# Altium footprint library TIDA-010086.PcbLib: 24 footprints (part 1 of 2)
Each footprint in its own frame and in the unit in brackets; x right, y up, seen from the top. Pads: shape width x height; smd on the part's side, far side on the other; paste and mask are expansions set on the pad; w line width, h text height; cw(c..) or ccw(c..) is an arc to the next point about the centre after c.
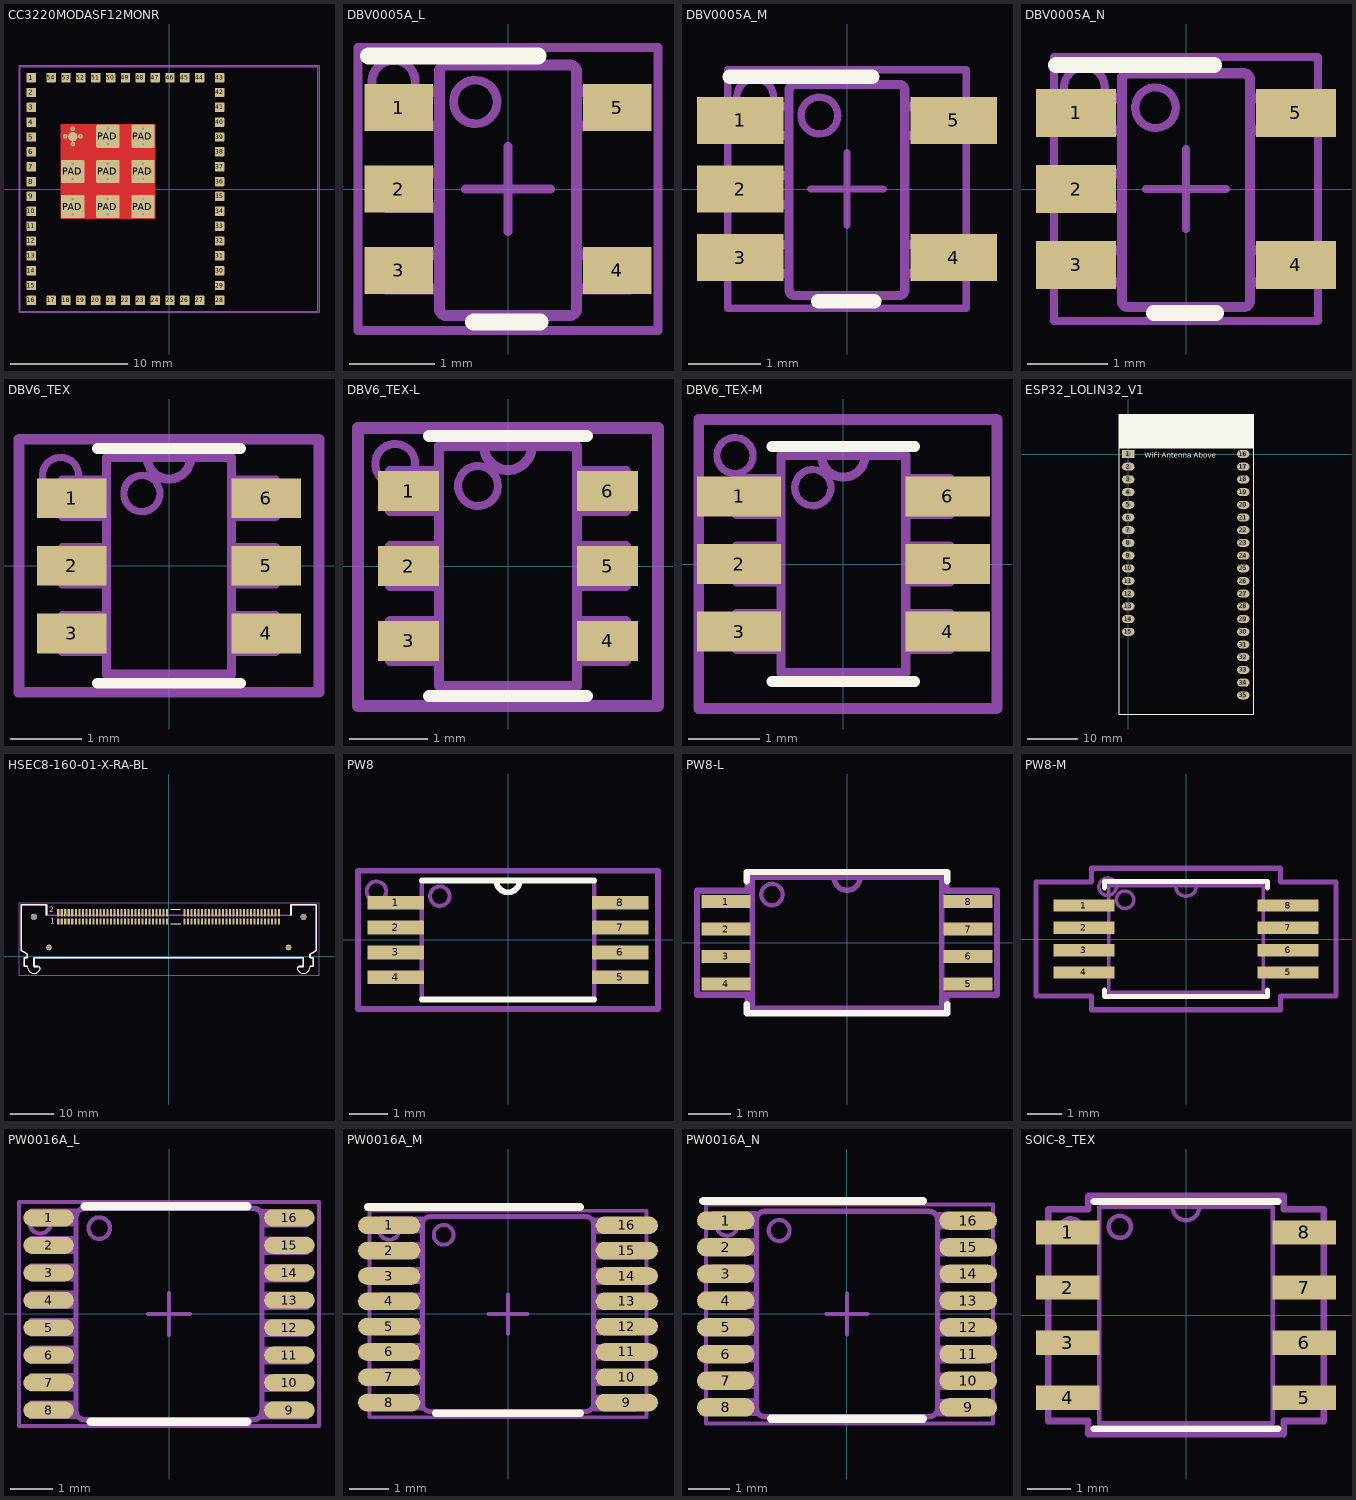
[diagram p0: the footprints below, top view; thin cyan lines are the x and y axes]

## CC3220MODASF12MONR [mm]
pads (99):
  rrect12% 0.8x0.8 smd paste-0.03: 1(-11.774,9.525) 2(-11.774,8.255) 3(-11.774,6.985) 4(-11.774,5.715) 5(-11.774,4.445) 6(-11.774,3.175) 7(-11.774,1.905) 8(-11.774,0.635) 9(-11.774,-0.635) 10(-11.774,-1.905) 11(-11.774,-3.175) 12(-11.774,-4.445) 13(-11.774,-5.715) 14(-11.774,-6.985) 15(-11.774,-8.255) 16(-11.774,-9.525) 17(-10.074,-9.524) 18(-8.804,-9.524) 19(-7.534,-9.524) 20(-6.264,-9.524) 21(-4.994,-9.524) 22(-3.724,-9.524) 23(-2.454,-9.524) 24(-1.184,-9.524) 25(0.086,-9.524) 26(1.356,-9.524) 27(2.626,-9.524) 28(4.326,-9.525) 29(4.326,-8.255) 30(4.326,-6.985) 31(4.326,-5.715) 32(4.326,-4.445) 33(4.326,-3.175) 34(4.326,-1.905) 35(4.326,-0.635) 36(4.326,0.635) 37(4.326,1.905) 38(4.326,3.175) 39(4.326,4.445) 40(4.326,5.715) 41(4.326,6.985) 42(4.326,8.255) 43(4.326,9.525) 44(2.626,9.524) 45(1.356,9.524) 46(0.086,9.524) 47(-1.184,9.524) 48(-2.454,9.524) 49(-3.724,9.524) 50(-4.994,9.524) 51(-6.264,9.524) 52(-7.534,9.524) 53(-8.804,9.524) 54(-10.074,9.524)
  round 0.4 hole 0.2 mask+0.102: PAD(-8.874,-1.5) PAD(-8.874,1.5) PAD(-8.874,4.5) PAD(-8.224,-2.15) PAD(-8.224,-0.85) PAD(-8.224,0.85) PAD(-8.224,2.15) PAD(-8.224,3.85) PAD(-8.224,5.15) PAD(-7.574,-1.5) PAD(-7.574,1.5) PAD(-7.574,4.5) PAD(-5.874,-1.5) PAD(-5.874,1.5) PAD(-5.874,4.5) PAD(-5.224,-2.15) PAD(-5.224,-0.85) PAD(-5.224,0.85) PAD(-5.224,2.15) PAD(-5.224,3.85) PAD(-5.224,5.15) PAD(-4.574,-1.5) PAD(-4.574,1.5) PAD(-4.574,4.5) PAD(-2.874,-1.5) PAD(-2.874,1.5) PAD(-2.874,4.5) PAD(-2.224,-2.15) PAD(-2.224,-0.85) PAD(-2.224,0.85) PAD(-2.224,2.15) PAD(-2.224,3.85) PAD(-2.224,5.15) PAD(-1.574,-1.5) PAD(-1.574,1.5) PAD(-1.574,4.5)
  round 0.8 smd: PAD(-8.225,4.475)
  rrect12% 2x2 smd paste-0.1 mask+0: PAD(-8.224,-1.5) PAD(-8.224,1.5) PAD(-5.224,-1.5) PAD(-5.224,1.5) PAD(-5.224,4.5) PAD(-2.224,-1.5) PAD(-2.224,1.5) PAD(-2.224,4.5)
Top Layer:
  rectangle: -9.274,-2.55 -1.174,5.55
  region: -9.2,3.526 -9.15,3.5 -9.125,3.5 -9.075,3.5 -7.35,3.5 -7.3,3.5 -7.249,3.526 -7.225,3.575 -7.225,3.625 -7.225,5.425 -7.249,5.474 -7.3,5.5 -7.35,5.5 -8.524,5.5 -9.225,4.798 -9.225,3.65 -9.225,3.6 -9.225,3.575
Top Courtyard:
  lines w0.1: -12.7,-10.45 12.7,-10.45 12.7,10.45 -12.7,10.45 -12.7,-10.45
Mechanical 5:
  lines w0.127: -12.827,-10.541 12.827,-10.541 12.827,10.541 -12.827,10.541 -12.827,-10.541
  text ".Designator" at -4.998,-0.333 h1
3D body: height 2.4, standoff 0.88, extent -12.062,-9.8 4.614,9.8
3D body: height 0.88, standoff 0, extent -12.65,-10.4 12.65,10.4

## DBV0005A_L [mm]
pads (5):
  rect 0.8x0.55 smd paste+0 mask+0: 1(-1.275,0.95) 2(-1.275,0) 3(-1.275,-0.95) 4(1.275,-0.95) 5(1.275,0.95)
Top Overlay:
  lines w0.2: -1.625,1.55 0.35,1.55 ; -0.4,-1.55 0.375,-1.55
Mechanical 5:
  circle w0.102: c-1.335,1.247 r0.254
  lines w0.102: -1.75,-1.65 1.75,-1.65 1.75,1.65 -1.75,1.65 -1.75,-1.65
  text ".Designator" at -0.15,2.249 h0.45
Mechanical 13:
  circle w0.102: c-0.381,1.016 r0.254
  lines w0.127: -0.801,1.371 cw(c-0.725,1.37) -0.725,1.446 ; -0.801,1.37 -0.801,-1.399 -0.801,-1.4 ccw(c-0.725,-1.399) -0.725,-1.475 ; -0.801,1.37 -0.801,1.371 ; -0.725,-1.475 -0.725,-1.475 ; -0.725,-1.475 0.723,-1.475 0.724,-1.475 ccw(c0.723,-1.399) 0.799,-1.4 0.799,-1.399 0.799,1.37 ; -0.725,1.446 -0.725,1.446 ; -0.725,1.446 0.723,1.446 0.724,1.446 cw(c0.723,1.37) 0.799,1.371 ; 0.799,1.37 0.799,1.371 ; -1.423,-1.167 -1.199,-1.167 -1.105,-1.167 -1.088,-1.167 -0.835,-1.167 -0.801,-1.167 -0.801,-0.767 -0.835,-0.767 -1.088,-0.767 -1.105,-0.767 -1.199,-0.767 -1.423,-0.767 -1.423,-1.167 ; -1.423,-0.215 -1.199,-0.215 -1.105,-0.215 -1.088,-0.215 -0.835,-0.215 -0.801,-0.215 -0.801,0.186 -0.835,0.186 -1.088,0.186 -1.105,0.186 -1.199,0.186 -1.423,0.186 -1.423,-0.215 ; -1.423,0.738 -1.199,0.738 -1.105,0.738 -1.088,0.738 -0.835,0.738 -0.801,0.738 -0.801,1.138 -0.835,1.138 -1.088,1.138 -1.105,1.138 -1.199,1.138 -1.423,1.138 -1.423,0.738 ; 0.799,-1.167 0.799,-0.767 0.834,-0.767 1.087,-0.767 1.103,-0.767 1.198,-0.767 1.422,-0.767 1.422,-1.167 1.198,-1.167 1.103,-1.167 1.087,-1.167 0.834,-1.167 0.799,-1.167 ; 0.799,0.738 0.799,1.138 0.834,1.138 1.087,1.138 1.103,1.138 1.198,1.138 1.422,1.138 1.422,0.738 1.198,0.738 1.103,0.738 1.087,0.738 0.834,0.738 0.799,0.738
Mechanical 15:
  lines w0.1: -0.5,0 0.5,0 ; 0,-0.5 0,0.5
3D body "DBV0005A.stp": height 1.2, standoff 0, extent -1.4,-1.45 1.4,1.45

## DBV0005A_M [mm]
pads (5):
  rect 1.2x0.65 smd paste+0 mask+0: 1(-1.475,0.95) 2(-1.475,0) 3(-1.475,-0.95) 4(1.475,-0.95) 5(1.475,0.95)
Top Overlay:
  lines w0.2: -1.625,1.55 0.35,1.55 ; -0.4,-1.55 0.375,-1.55
Mechanical 5:
  circle w0.102: c-1.27,1.27 r0.254
  lines w0.102: -1.651,-1.651 1.651,-1.651 1.651,1.651 -1.651,1.651 -1.651,-1.651
  text ".Designator" at -0.15,2.249 h0.45
Mechanical 13:
  circle w0.102: c-0.381,1.016 r0.254
  lines w0.127: -0.801,1.371 cw(c-0.725,1.37) -0.725,1.446 ; -0.801,1.37 -0.801,-1.399 -0.801,-1.4 ccw(c-0.725,-1.399) -0.725,-1.475 ; -0.801,1.37 -0.801,1.371 ; -0.725,-1.475 -0.725,-1.475 ; -0.725,-1.475 0.723,-1.475 0.724,-1.475 ccw(c0.723,-1.399) 0.799,-1.4 0.799,-1.399 0.799,1.37 ; -0.725,1.446 0.723,1.446 0.724,1.446 cw(c0.723,1.37) 0.799,1.371 ; -0.725,1.446 -0.725,1.446 ; 0.799,1.37 0.799,1.371 ; -1.423,-1.167 -1.423,-0.767 -1.199,-0.767 -1.105,-0.767 -1.088,-0.767 -0.835,-0.767 -0.801,-0.767 -0.801,-1.167 -0.835,-1.167 -1.088,-1.167 -1.105,-1.167 -1.199,-1.167 -1.423,-1.167 ; -1.423,-0.215 -1.199,-0.215 -1.105,-0.215 -1.088,-0.215 -0.835,-0.215 -0.801,-0.215 -0.801,0.186 -0.835,0.186 -1.088,0.186 -1.105,0.186 -1.199,0.186 -1.423,0.186 -1.423,-0.215 ; -1.423,0.738 -1.199,0.738 -1.105,0.738 -1.088,0.738 -0.835,0.738 -0.801,0.738 -0.801,1.138 -0.835,1.138 -1.088,1.138 -1.105,1.138 -1.199,1.138 -1.423,1.138 -1.423,0.738 ; 0.799,-1.167 0.799,-0.767 0.834,-0.767 1.087,-0.767 1.103,-0.767 1.198,-0.767 1.422,-0.767 1.422,-1.167 1.198,-1.167 1.103,-1.167 1.087,-1.167 0.834,-1.167 0.799,-1.167 ; 0.799,0.738 0.799,1.138 0.834,1.138 1.087,1.138 1.103,1.138 1.198,1.138 1.422,1.138 1.422,0.738 1.198,0.738 1.103,0.738 1.087,0.738 0.834,0.738 0.799,0.738
Mechanical 15:
  lines w0.1: -0.5,0 0.5,0 ; 0,-0.5 0,0.5
3D body "DBV0005A.stp": height 1.2, standoff 0, extent -1.4,-1.45 1.4,1.45

## DBV0005A_N [mm]
pads (5):
  rect 1x0.6 smd paste+0 mask+0: 1(-1.375,0.95) 2(-1.375,0) 3(-1.375,-0.95) 4(1.375,-0.95) 5(1.375,0.95)
Top Overlay:
  lines w0.2: -1.625,1.55 0.35,1.55 ; -0.4,-1.55 0.375,-1.55
Mechanical 5:
  circle w0.102: c-1.27,1.27 r0.254
  lines w0.102: -1.651,-1.651 1.651,-1.651 1.651,1.651 -1.651,1.651 -1.651,-1.651
  text ".Designator" at -0.15,2.249 h0.45
Mechanical 13:
  circle w0.102: c-0.381,1.016 r0.254
  lines w0.127: -0.801,1.371 cw(c-0.725,1.37) -0.725,1.446 ; -0.801,1.37 -0.801,-1.399 -0.801,-1.4 ccw(c-0.725,-1.399) -0.725,-1.475 ; -0.801,1.37 -0.801,1.371 ; -0.725,-1.475 0.723,-1.475 0.724,-1.475 ccw(c0.723,-1.399) 0.799,-1.4 0.799,-1.399 0.799,1.37 ; -0.725,-1.475 -0.725,-1.475 ; -0.725,1.446 0.723,1.446 0.724,1.446 cw(c0.723,1.37) 0.799,1.371 ; -0.725,1.446 -0.725,1.446 ; 0.799,1.37 0.799,1.371 ; -1.423,-1.167 -1.423,-0.767 -1.199,-0.767 -1.105,-0.767 -1.088,-0.767 -0.835,-0.767 -0.801,-0.767 -0.801,-1.167 -0.835,-1.167 -1.088,-1.167 -1.105,-1.167 -1.199,-1.167 -1.423,-1.167 ; -1.423,-0.215 -1.423,0.186 -1.199,0.186 -1.105,0.186 -1.088,0.186 -0.835,0.186 -0.801,0.186 -0.801,-0.215 -0.835,-0.215 -1.088,-0.215 -1.105,-0.215 -1.199,-0.215 -1.423,-0.215 ; -1.423,0.738 -1.423,1.138 -1.199,1.138 -1.105,1.138 -1.088,1.138 -0.835,1.138 -0.801,1.138 -0.801,0.738 -0.835,0.738 -1.088,0.738 -1.105,0.738 -1.199,0.738 -1.423,0.738 ; 0.799,-1.167 0.834,-1.167 1.087,-1.167 1.103,-1.167 1.198,-1.167 1.422,-1.167 1.422,-0.767 1.198,-0.767 1.103,-0.767 1.087,-0.767 0.834,-0.767 0.799,-0.767 0.799,-1.167 ; 0.799,0.738 0.799,1.138 0.834,1.138 1.087,1.138 1.103,1.138 1.198,1.138 1.422,1.138 1.422,0.738 1.198,0.738 1.103,0.738 1.087,0.738 0.834,0.738 0.799,0.738
Mechanical 15:
  lines w0.1: -0.5,0 0.5,0 ; 0,-0.5 0,0.5
3D body "DBV0005A.stp": height 1.2, standoff 0, extent -1.4,-1.45 1.4,1.45

## DBV6_TEX [mil]
pads (6):
  rect 38.5x22 smd paste+0 mask+0: 1(-53.75,37.4) 2(-53.75,0) 3(-53.75,-37.4) 4(53.75,-37.4) 5(53.75,0) 6(53.75,37.4)
Top Overlay:
  lines w6: -39.5,-65 39.5,-65 ; -39.5,65 39.5,65
  text "." at -75,75 h50
Mechanical 5:
  circle w4: c-60,50 r10
  lines w6: -83,-70 -44.5,-70 44.5,-70 83,-70 83,70 44.5,70 -44.5,70 -83,70 -83,-70
  text ".Designator" at -5.9,88.55 h17.72
Mechanical 13:
  circle w4: c-15,40 r10
  lines w5: -12,60 ccw(c0,60) 12,60 ; -59,-47.4 -59,-27.4 -34.5,-27.4 -34.5,-47.4 -59,-47.4 ; -59,-10 -59,10 -34.5,10 -34.5,-10 -59,-10 ; -59,27.4 -59,47.4 -34.5,47.4 -34.5,27.4 -59,27.4 ; -34.5,-60 34.5,-60 34.5,60 -34.5,60 -34.5,-60 ; 34.5,-47.4 34.5,-27.4 59,-27.4 59,-47.4 34.5,-47.4 ; 34.5,-10 34.5,10 59,10 59,-10 34.5,-10 ; 34.5,27.4 34.5,47.4 59,47.4 59,27.4 34.5,27.4
3D body "DBV0006A.stp": height 47.24, standoff 0, extent -55.11,-57.08 55.12,57.09

## DBV6_TEX-L [mil]
pads (6):
  rect 30.5x20 smd paste+0 mask+0: 1(-49.75,37.4) 2(-49.75,0) 3(-49.75,-37.4) 4(49.75,-37.4) 5(49.75,0) 6(49.75,37.4)
Top Overlay:
  lines w6: -39.5,-65 39.5,-65 ; -39.5,65 39.5,65
  text "." at -75,75 h50
Mechanical 5:
  circle w4: c-56.4,51.06 r10
  lines w6: -75,-70 -32.5,-70 44.5,-70 75,-70 75,69 -75,69 -75,-70
  text ".Designator" at -5.9,88.55 h17.72
Mechanical 13:
  circle w4: c-15,40 r10
  lines w5: -12,60 ccw(c0,60) 12,60 ; -59,-47.4 -34.5,-47.4 -34.5,-27.4 -59,-27.4 -59,-47.4 ; -59,-10 -34.5,-10 -34.5,10 -59,10 -59,-10 ; -59,27.4 -34.5,27.4 -34.5,47.4 -59,47.4 -59,27.4 ; -34.5,-60 -34.5,60 34.5,60 34.5,-60 -34.5,-60 ; 34.5,-47.4 59,-47.4 59,-27.4 34.5,-27.4 34.5,-47.4 ; 34.5,-10 59,-10 59,10 34.5,10 34.5,-10 ; 34.5,27.4 59,27.4 59,47.4 34.5,47.4 34.5,27.4
3D body "DBV0006A.stp": height 47.24, standoff 0, extent -55.11,-57.08 55.12,57.09

## DBV6_TEX-M [mil]
pads (6):
  rect 46.5x22 smd paste+0 mask+0: 1(-57.75,37.4) 2(-57.75,0) 3(-57.75,-37.4) 4(57.75,-37.4) 5(57.75,0) 6(57.75,37.4)
Top Overlay:
  lines w6: -39.5,-65 39.5,-65 ; -39.5,65 39.5,65
  text "." at -75,75 h50
Mechanical 5:
  circle w4: c-60,60 r10
  lines w6: -80,-80 -80,80 -54.5,80 54.5,80 85,80 85,-80 54.5,-80 -54.5,-80 -80,-80
  text ".Designator" at -5.9,88.55 h17.72
Mechanical 13:
  circle w4: c-16.9,42.28 r10
  lines w5: -12,60 ccw(c0,60) 12,60 ; -59,-47.4 -59,-27.4 -34.5,-27.4 -34.5,-47.4 -59,-47.4 ; -59,-10 -59,10 -34.5,10 -34.5,-10 -59,-10 ; -59,27.4 -59,47.4 -34.5,47.4 -34.5,27.4 -59,27.4 ; -34.5,-60 34.5,-60 34.5,60 -34.5,60 -34.5,-60 ; 34.5,-47.4 34.5,-27.4 59,-27.4 59,-47.4 34.5,-47.4 ; 34.5,-10 34.5,10 59,10 59,-10 34.5,-10 ; 34.5,27.4 34.5,47.4 59,47.4 59,27.4 34.5,27.4
3D body "DBV0006A.stp": height 47.24, standoff 0, extent -55.11,-57.08 55.12,57.09
3D body "DBV0006A.stp": height 47.24, standoff 0, extent -55.11,-57.08 55.12,57.09

## ESP32_LOLIN32_V1 [mm] "WeMos LOLIN32 ESP32 Module"
pads (36):
  rect 2.5x1.6 / inner rect 2x1.2 / far side rect 2x1 hole 1.1: 1(0,0)
  oval 2.5x1.6 / inner oval 2x1.2 / far side oval 2x1 hole 1.1: 2(0,-2.54) 3(0,-5.08) 4(0,-7.62) 5(0,-10.16) 6(0,-12.7) 7(0,-15.24) 8(0,-17.78) 9(0,-20.32) 10(0,-22.86) 11(0,-25.4) 12(0,-27.94) 13(0,-30.48) 14(0,-33.02) 15(0,-35.56) 16(23,0) 17(23,-2.54) 17(23,-2.54) 18(23,-5.08) 19(23,-7.62) 20(23,-10.16) 21(23,-12.7) 22(23,-15.24) 23(23,-17.78) 24(23,-20.32) 25(23,-22.86) 26(23,-25.4) 27(23,-27.94) 28(23,-30.48) 29(23,-33.02) 30(23,-35.56) 31(23,-38.1) 32(23,-40.64) 33(23,-43.18) 34(23,-45.72) 35(23,-48.26)
Top Overlay:
  rectangle: -1.9,1.1 25,8
  lines w0.2: -1.9,-52 -1.9,8 25,8 25,-52 -1.9,-52
  text "WiFi Antenna Above" at 3.3,-0.7 h1
Mechanical 5:
  text ".Designator" at 11.397,-18.096 h1.27
3D body "Lolin32 V1.0.0.step": height 8.35, standoff -7.64, extent -1.34,-51.186 24.2,7.586

## HSEC8-160-01-X-RA-BL [mm]
pads (124):
  rect 0.5x1.35 smd: 1(-25.2,7.925) 3(-24.4,7.925) 5(-23.6,7.925) 7(-22.8,7.925) 9(-22,7.925) 11(-21.2,7.925) 13(-20.4,7.925) 15(-19.6,7.925) 17(-18.8,7.925) 19(-18,7.925) 21(-17.2,7.925) 23(-16.4,7.925) 25(-15.6,7.925) 27(-14.8,7.925) 29(-14,7.925) 31(-13.2,7.925) 33(-12.4,7.925) 35(-11.6,7.925) 37(-10.8,7.925) 39(-10,7.925) 41(-9.2,7.925) 43(-8.4,7.925) 45(-7.6,7.925) 47(-6.8,7.925) 49(-6,7.925) 51(-5.2,7.925) 53(-4.4,7.925) 55(-3.6,7.925) 57(-2.8,7.925) 59(-2,7.925) 61(-1.2,7.925) 63(-0.4,7.925) 65(3.6,7.925) 67(4.4,7.925) 69(5.2,7.925) 71(6,7.925) 73(6.8,7.925) 75(7.6,7.925) 77(8.4,7.925) 79(9.2,7.925) 81(10,7.925) 83(10.8,7.925) 85(11.6,7.925) 87(12.4,7.925) 89(13.2,7.925) 91(14,7.925) 93(14.8,7.925) 95(15.6,7.925) 97(16.4,7.925) 99(17.2,7.925) 101(18,7.925) 103(18.8,7.925) 105(19.6,7.925) 107(20.4,7.925) 109(21.2,7.925) 111(22,7.925) 113(22.8,7.925) 115(23.6,7.925) 117(24.4,7.925) 119(25.2,7.925)
  rect 0.5x1.65 smd: 2(-25.2,9.925) 4(-24.4,9.925) 6(-23.6,9.925) 8(-22.8,9.925) 10(-22,9.925) 12(-21.2,9.925) 14(-20.4,9.925) 16(-19.6,9.925) 18(-18.8,9.925) 20(-18,9.925) 22(-17.2,9.925) 24(-16.4,9.925) 26(-15.6,9.925) 28(-14.8,9.925) 30(-14,9.925) 32(-13.2,9.925) 34(-12.4,9.925) 36(-11.6,9.925) 38(-10.8,9.925) 40(-10,9.925) 42(-9.2,9.925) 44(-8.4,9.925) 46(-7.6,9.925) 48(-6.8,9.925) 50(-6,9.925) 52(-5.2,9.925) 54(-4.4,9.925) 56(-3.6,9.925) 58(-2.8,9.925) 60(-2,9.925) 62(-1.2,9.925) 64(-0.4,9.925) 66(3.6,9.925) 68(4.4,9.925) 70(5.2,9.925) 72(6,9.925) 74(6.8,9.925) 76(7.6,9.925) 78(8.4,9.925) 80(9.2,9.925) 82(10,9.925) 84(10.8,9.925) 86(11.6,9.925) 88(12.4,9.925) 90(13.2,9.925) 92(14,9.925) 94(14.8,9.925) 96(15.6,9.925) 98(16.4,9.925) 100(17.2,9.925) 102(18,9.925) 104(18.8,9.925) 106(19.6,9.925) 108(20.4,9.925) 110(21.2,9.925) 112(22,9.925) 114(22.8,9.925) 116(23.6,9.925) 118(24.4,9.925) 120(25.2,9.925)
  round 1.3 hole 0.81: G1(-27.35,2) G2(27.35,2)
  round 1.4 hole 1.4 unplated: ""(-30.775,9) ""(30.775,9)
Top Overlay:
  drawing of 51 lines, arcs and shapes, not listed
  text "1" at -27.051,7.366 h1.27
  text "2" at -27.305,10.033 h1.27
Top Paste:
  drawing of 2 lines, arcs and shapes, not listed
Mechanical 5:
  lines w0.102: -34.176,-4.331 34.303,-4.331 34.303,12.205 -34.176,12.205 -34.176,-4.331
  text ".Designator" at -3.749,4.068 h0.75
Mechanical 13:
  drawing of 50 lines, arcs and shapes, not listed
3D body "strip_hsec8-160-01-l-ra-bl.stp": height 6.16, standoff -1.54, extent -33.645,-3.888 33.655,11.762

## PW8 [mil]
pads (8):
  rect 58x14 smd: 1(-115,38.39) 2(-115,12.8) 3(-115,-12.8) 4(-115,-38.39) 5(115,-38.39) 6(115,-12.8) 7(115,12.8) 8(115,38.39)
Top Overlay:
  lines w6: -88.5,-61 88.5,-61 ; -88.5,61 88.5,61 ; -12,61 ccw(c0,61) 12,61
  text "." at -120,75 h50
Mechanical 5:
  circle w4: c-135,50 r10
  lines w6: -154,-71 154,-71 154,71 -154,71 -154,-71
  text ".Designator" at -147.59,-9.84 h29.53
Mechanical 13:
  circle w4: c-70,45 r10
  lines w5: -12,61 ccw(c0,61) 12,61 ; -88.5,-61 88.5,-61 88.5,61 -88.5,61 -88.5,-61
3D body "PW0008A.stp": height 42.32, standoff -0.98, extent -126.4,-59.05 126.4,59.06

## PW8-L [mil]
pads (8):
  rect 46x12 smd paste+0 mask+0: 1(-113,38.39) 2(-113,12.8) 3(-113,-12.8) 4(-113,-38.39) 5(113,-38.39) 6(113,-12.8) 7(113,12.8) 8(113,38.39)
Top Overlay:
  lines w6: -93.5,-57.49 -93.5,-66 93.5,-66 93.5,-57.49 ; -93.5,57.49 -93.5,66 93.5,66 93.5,57.49
  text "." at -120,75 h50
Mechanical 5:
  circle w4: c-70,45 r10
  lines w6: -140,-48.39 -92.5,-48.39 -92.5,-65 92.5,-65 92.5,-48.39 140,-48.39 140,48.39 92.5,48.39 92.5,65 -92.5,65 -92.5,48.39 -140,48.39 -140,-48.39
  text ".Designator" at -147.59,-9.84 h29.53
Mechanical 13:
  circle w4: c-70,45 r10
  lines w5: -12,61 ccw(c0,61) 12,61 ; -88.5,-61 -88.5,61 88.5,61 88.5,-61 -88.5,-61
3D body "PW0008A.stp": height 42.32, standoff -0.98, extent -126.4,-59.05 126.4,59.06

## PW8-M [mil]
pads (8):
  rect 70x14 smd paste+0 mask+0: 1(-117,38.39) 2(-117,12.8) 3(-117,-12.8) 4(-117,-38.39) 5(117,-38.39) 6(117,-12.8) 7(117,12.8) 8(117,38.39)
Top Overlay:
  lines w6: -93.5,-58.49 -93.5,-66 93.5,-66 93.5,-58.49 ; -93.5,58.49 -93.5,66 93.5,66 93.5,58.49
  text "." at -120,75 h50
Mechanical 5:
  circle w4: c-90,60 r10
  lines w6: -172,-65.39 -108.5,-65.39 -108.5,-81 108.5,-81 108.5,-65.39 172,-65.39 172,65.39 108.5,65.39 108.5,81 -108.5,81 -108.5,65.39 -172,65.39 -172,-65.39
  text ".Designator" at -147.59,-9.84 h29.53
Mechanical 13:
  circle w4: c-70,45 r10
  lines w4: -12,61 ccw(c0,61) 12,61 ; -88.5,-61 -88.5,61 88.5,61 88.5,-61 -88.5,-61
3D body "PW0008A.stp": height 42.32, standoff -0.98, extent -126.4,-59.05 126.4,59.06

## PW0016A_L [mm]
pads (16):
  oval 1.2x0.4 smd paste+0 mask+0.051: 1(-2.85,2.275) 2(-2.85,1.625) 3(-2.85,0.975) 4(-2.85,0.325) 5(-2.85,-0.325) 6(-2.85,-0.975) 7(-2.85,-1.625) 8(-2.85,-2.275) 9(2.85,-2.275) 10(2.85,-1.625) 11(2.85,-0.975) 12(2.85,-0.325) 13(2.85,0.325) 14(2.85,0.975) 15(2.85,1.625) 16(2.85,2.275)
Top Overlay:
  lines w0.2: -2,2.55 1.85,2.55 ; -1.85,-2.55 1.85,-2.55
  text "." at -2.921,3.048 h0.64
Mechanical 5:
  circle w0.102: c-3.048,2.159 r0.254
  lines w0.102: -3.55,-2.65 -3.55,2.65 3.55,2.65 3.55,-2.65 -3.55,-2.65
  text ".Designator" at -3.749,-0.25 h0.75
Mechanical 13:
  circle w0.102: c-1.651,2.032 r0.254
  lines w0.127: -2.204,-2.418 -3.259,-2.418 -3.259,-2.113 -2.204,-2.113 ; -2.204,-1.768 -3.259,-1.768 -3.259,-1.463 -2.204,-1.463 ; -2.204,-1.118 -3.259,-1.118 -3.259,-0.813 -2.204,-0.813 ; -2.204,-0.468 -3.259,-0.468 -3.259,-0.163 -2.204,-0.163 ; -2.204,0.182 -3.259,0.182 -3.259,0.487 -2.204,0.487 ; -2.204,0.832 -3.259,0.832 -3.259,1.137 -2.204,1.137 ; -2.204,1.482 -3.259,1.482 -3.259,1.787 -2.204,1.787 ; -2.204,2.132 -3.259,2.132 -3.259,2.437 -2.204,2.437 ; -2.2,-2.398 -2.2,-2.152 ; -2.2,-1.748 -2.2,-1.503 ; -2.2,-1.098 -2.2,-0.852 ; -2.2,-0.447 -2.2,-0.203 ; -2.2,0.202 -2.2,0.448 ; -2.2,0.853 -2.2,1.097 ; -2.2,1.502 -2.2,1.747 ; -2.2,2.152 -2.2,2.397 ; 2.2,-2.398 2.2,-2.152 ; 2.2,-1.748 2.2,-1.503 ; 2.2,-1.098 2.2,-0.852 ; 2.2,-0.447 2.2,-0.203 ; 2.2,0.202 2.2,0.448 ; 2.2,0.853 2.2,1.097 ; 2.2,1.502 2.2,1.747 ; 2.2,2.153 2.2,2.397 ; 2.212,-2.436 3.266,-2.436 3.266,-2.132 2.212,-2.132 ; 2.212,-1.786 3.266,-1.786 3.266,-1.482 2.212,-1.482 ; 2.212,-1.136 3.266,-1.136 3.266,-0.832 2.212,-0.832 ; 2.212,-0.486 3.266,-0.486 3.266,-0.182 2.212,-0.182 ; 2.212,0.164 3.266,0.164 3.266,0.468 2.212,0.468 ; 2.212,0.814 3.266,0.814 3.266,1.118 2.212,1.118 ; 2.212,1.464 3.266,1.464 3.266,1.768 2.212,1.768 ; 2.212,2.114 3.266,2.114 3.266,2.418 2.212,2.418 ; -2.2,-2.3 ccw(c-2,-2.3) -2,-2.5 2,-2.5 ccw(c2,-2.3) 2.2,-2.3 2.2,2.3 ccw(c2,2.3) 2,2.5 -2,2.5 ccw(c-2,2.3) -2.2,2.3 -2.2,-2.3
Mechanical 15:
  lines w0.1: -0.5,0 0.5,0 ; 0,-0.5 0,0.5
3D body "PW0016A.stp": height 1.13, standoff 0, extent -3.2,-2.5 3.2,2.5

## PW0016A_M [mm]
pads (16):
  oval 1.6x0.45 smd paste+0 mask+0.051: 1(-3.05,2.275) 2(-3.05,1.625) 3(-3.05,0.975) 4(-3.05,0.325) 5(-3.05,-0.325) 6(-3.05,-0.975) 7(-3.05,-1.625) 8(-3.05,-2.275) 9(3.05,-2.275) 10(3.05,-1.625) 11(3.05,-0.975) 12(3.05,-0.325) 13(3.05,0.325) 14(3.05,0.975) 15(3.05,1.625) 16(3.05,2.275)
Top Overlay:
  lines w0.2: -3.6,2.75 1.85,2.75 ; -1.85,-2.55 1.85,-2.55
Mechanical 5:
  circle w0.102: c-3.048,2.159 r0.254
  lines w0.102: -3.55,-2.65 3.55,-2.65 3.55,2.65 -3.55,2.65 -3.55,-2.65
  text ".Designator" at -3.749,-0.25 h0.75
Mechanical 13:
  circle w0.102: c-1.651,2.032 r0.254
  lines w0.127: -2.204,-2.418 -3.259,-2.418 -3.259,-2.113 -2.204,-2.113 ; -2.204,-1.768 -3.259,-1.768 -3.259,-1.463 -2.204,-1.463 ; -2.204,-1.118 -3.259,-1.118 -3.259,-0.813 -2.204,-0.813 ; -2.204,-0.468 -3.259,-0.468 -3.259,-0.163 -2.204,-0.163 ; -2.204,0.182 -3.259,0.182 -3.259,0.487 -2.204,0.487 ; -2.204,0.832 -3.259,0.832 -3.259,1.137 -2.204,1.137 ; -2.204,1.482 -3.259,1.482 -3.259,1.787 -2.204,1.787 ; -2.204,2.132 -3.259,2.132 -3.259,2.437 -2.204,2.437 ; -2.2,-2.398 -2.2,-2.152 ; -2.2,-1.748 -2.2,-1.503 ; -2.2,-1.098 -2.2,-0.852 ; -2.2,-0.447 -2.2,-0.203 ; -2.2,0.202 -2.2,0.448 ; -2.2,0.853 -2.2,1.097 ; -2.2,1.502 -2.2,1.747 ; -2.2,2.152 -2.2,2.397 ; 2.2,-2.398 2.2,-2.152 ; 2.2,-1.748 2.2,-1.503 ; 2.2,-1.098 2.2,-0.852 ; 2.2,-0.447 2.2,-0.203 ; 2.2,0.202 2.2,0.448 ; 2.2,0.853 2.2,1.097 ; 2.2,1.502 2.2,1.747 ; 2.2,2.153 2.2,2.397 ; 2.212,-2.436 3.266,-2.436 3.266,-2.132 2.212,-2.132 ; 2.212,-1.786 3.266,-1.786 3.266,-1.482 2.212,-1.482 ; 2.212,-1.136 3.266,-1.136 3.266,-0.832 2.212,-0.832 ; 2.212,-0.486 3.266,-0.486 3.266,-0.182 2.212,-0.182 ; 2.212,0.164 3.266,0.164 3.266,0.468 2.212,0.468 ; 2.212,0.814 3.266,0.814 3.266,1.118 2.212,1.118 ; 2.212,1.464 3.266,1.464 3.266,1.768 2.212,1.768 ; 2.212,2.114 3.266,2.114 3.266,2.418 2.212,2.418 ; -2.2,-2.3 ccw(c-2,-2.3) -2,-2.5 2,-2.5 ccw(c2,-2.3) 2.2,-2.3 2.2,2.3 ccw(c2,2.3) 2,2.5 -2,2.5 ccw(c-2,2.3) -2.2,2.3 -2.2,-2.3
Mechanical 15:
  lines w0.1: -0.5,0 0.5,0 ; 0,-0.5 0,0.5
3D body "PW0016A.stp": height 1.13, standoff 0, extent -3.2,-2.5 3.2,2.5

## PW0016A_N [mm]
pads (16):
  oval 1.4x0.45 smd paste+0 mask+0.051: 1(-2.95,2.275) 2(-2.95,1.625) 3(-2.95,0.975) 4(-2.95,0.325) 5(-2.95,-0.325) 6(-2.95,-0.975) 7(-2.95,-1.625) 8(-2.95,-2.275) 9(2.95,-2.275) 10(2.95,-1.625) 11(2.95,-0.975) 12(2.95,-0.325) 13(2.95,0.325) 14(2.95,0.975) 15(2.95,1.625) 16(2.95,2.275)
Top Overlay:
  lines w0.2: -3.5,2.75 1.85,2.75 ; -1.85,-2.55 1.85,-2.55
Mechanical 5:
  circle w0.102: c-2.921,2.159 r0.254
  lines w0.102: -3.429,-2.667 -3.429,2.667 3.556,2.667 3.556,-2.667 -3.429,-2.667
  text ".Designator" at -3.749,-0.25 h0.75
Mechanical 13:
  circle w0.102: c-1.651,2.032 r0.254
  lines w0.127: -2.204,-2.418 -3.259,-2.418 -3.259,-2.113 -2.204,-2.113 ; -2.204,-1.768 -3.259,-1.768 -3.259,-1.463 -2.204,-1.463 ; -2.204,-1.118 -3.259,-1.118 -3.259,-0.813 -2.204,-0.813 ; -2.204,-0.468 -3.259,-0.468 -3.259,-0.163 -2.204,-0.163 ; -2.204,0.182 -3.259,0.182 -3.259,0.487 -2.204,0.487 ; -2.204,0.832 -3.259,0.832 -3.259,1.137 -2.204,1.137 ; -2.204,1.482 -3.259,1.482 -3.259,1.787 -2.204,1.787 ; -2.204,2.132 -3.259,2.132 -3.259,2.437 -2.204,2.437 ; -2.2,-2.398 -2.2,-2.152 ; -2.2,-1.748 -2.2,-1.503 ; -2.2,-1.098 -2.2,-0.852 ; -2.2,-0.447 -2.2,-0.203 ; -2.2,0.202 -2.2,0.448 ; -2.2,0.853 -2.2,1.097 ; -2.2,1.502 -2.2,1.747 ; -2.2,2.152 -2.2,2.397 ; 2.2,-2.398 2.2,-2.152 ; 2.2,-1.748 2.2,-1.503 ; 2.2,-1.098 2.2,-0.852 ; 2.2,-0.447 2.2,-0.203 ; 2.2,0.202 2.2,0.448 ; 2.2,0.853 2.2,1.097 ; 2.2,1.502 2.2,1.747 ; 2.2,2.153 2.2,2.397 ; 2.212,-2.436 3.266,-2.436 3.266,-2.132 2.212,-2.132 ; 2.212,-1.786 3.266,-1.786 3.266,-1.482 2.212,-1.482 ; 2.212,-1.136 3.266,-1.136 3.266,-0.832 2.212,-0.832 ; 2.212,-0.486 3.266,-0.486 3.266,-0.182 2.212,-0.182 ; 2.212,0.164 3.266,0.164 3.266,0.468 2.212,0.468 ; 2.212,0.814 3.266,0.814 3.266,1.118 2.212,1.118 ; 2.212,1.464 3.266,1.464 3.266,1.768 2.212,1.768 ; 2.212,2.114 3.266,2.114 3.266,2.418 2.212,2.418 ; -2.2,-2.3 ccw(c-2,-2.3) -2,-2.5 2,-2.5 ccw(c2,-2.3) 2.2,-2.3 2.2,2.3 ccw(c2,2.3) 2,2.5 -2,2.5 ccw(c-2,2.3) -2.2,2.3 -2.2,-2.3
Mechanical 15:
  lines w0.1: -0.5,0 0.5,0 ; 0,-0.5 0,0.5
3D body "PW0016A.stp": height 1.13, standoff 0, extent -3.2,-2.5 3.2,2.5

## SOIC-8_TEX [mil]
pads (8):
  rect 57.5x22 smd paste+0 mask+0: 1(-107.25,75) 2(-107.25,25) 3(-107.25,-25) 4(-107.25,-75) 5(107.25,-75) 6(107.25,-25) 7(107.25,25) 8(107.25,75)
Top Overlay:
  lines w6: -83.5,-103 83.5,-103 ; -83.5,103 83.5,103
  text "." at -125,120 h50
Mechanical 5:
  circle w4: c-104.4,77.76 r10
  lines w6: -125,-96 -88.5,-96 -88.5,-108 88.5,-108 88.5,-96 125,-96 125,96 88.5,96 88.5,108 -88.5,108 -88.5,96 -125,96 -125,-96
  text ".Designator" at -147.59,-9.84 h29.53
Mechanical 13:
  circle w4: c-60,80 r10
  lines w4: -78.5,-85 -78.5,-65 ; -78.5,-35 -78.5,-15 ; -78.5,15 -78.5,35 ; -78.5,65 -78.5,85 ; -12,98 ccw(c0,98) 12,98 ; 78.5,-85 78.5,-65 ; 78.5,-35 78.5,-15 ; 78.5,15 78.5,35 ; 78.5,65 78.5,85 ; -78.5,-98 -78.5,98 78.5,98 78.5,-98 -78.5,-98
3D body "D0008A.stp": height 64, standoff 0, extent -118.55,-96.49 118.56,96.51